# Altium footprint library PCB - MISC - Spring_Probe.PCBLIB: 1 footprints
Each footprint in its own frame and in the unit in brackets; x right, y up, seen from the top. Pads: shape width x height; smd on the part's side, far side on the other; paste and mask are expansions set on the pad; w line width, h text height; cw(c..) or ccw(c..) is an arc to the next point about the centre after c.
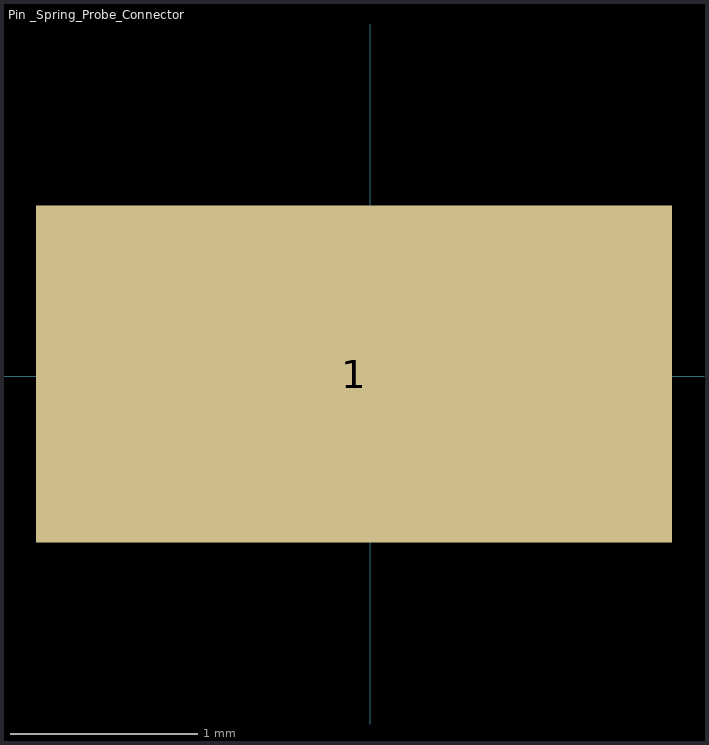
[diagram p0: the footprint, top view; thin cyan lines are the x and y axes]

## Pin _Spring_Probe_Connector [mm] "Pogo Pin Spring Probe Connector ROHS / TEST POINTS ON TAPE & REEL MICRO MINIATURE"
pads (1):
  rect 3.4x1.8 smd paste+0 mask+0: 1(-0.087,0.011)
Top Assembly:
  circle w0.6: c-0.087,0.011 r0.2
Top Designator:
  text ".Designator" at 1.31,-0.243 h1
Top Component Center:
  lines w0.05: -0.587,0.011 0.413,0.011 ; -0.087,-0.489 -0.087,0.511